# Altium schematic symbol library WIZNET.SchLib: 1 symbol
Pins are listed as number, name and electrical type; pins without a type are passive.

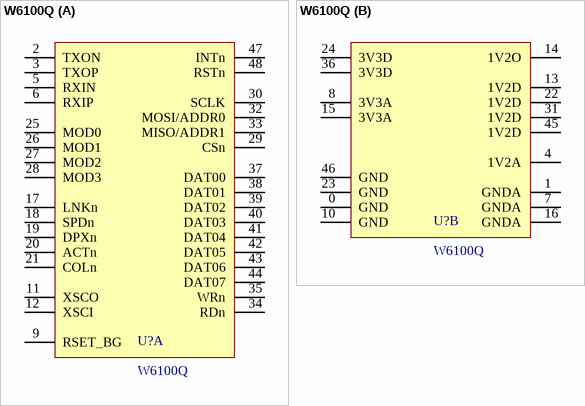
[diagram p0: symbol W6100Q]

## W6100Q
designator U?
part A pins: 2 TXON (power), 3 TXOP (power), 5 RXIN (power), 6 RXIP (power), 9 RSET_BG (power), 11 XSCO (power), 12 XSCI (power), 17 LNKn (power), 18 SPDn (power), 19 DPXn (power), 20 ACTn (power), 21 COLn (power), 25 MOD0 (power), 26 MOD1 (power), 27 MOD2 (power), 28 MOD3 (power), 29 CSn (power), 30 SCLK (power), 32 MOSI/ADDR0 (power), 33 MISO/ADDR1 (power), 34 RDn (power), 35 WRn (power), 37 DAT00 (power), 38 DAT01 (power), 39 DAT02 (power), 40 DAT03 (power), 41 DAT04 (power), 42 DAT05 (power), 43 DAT06 (power), 44 DAT07 (power), 47 INTn (power), 48 RSTn (power)
part B pins: 0 GND (power), 1 GNDA (power), 4 1V2A (power), 7 GNDA (power), 8 3V3A (power), 10 GND (power), 13 1V2D (power), 14 1V2O (power), 15 3V3A (power), 16 GNDA (power), 22 1V2D (power), 23 GND (power), 24 3V3D (power), 31 1V2D (power), 36 3V3D (power), 45 1V2D (power), 46 GND (power)